# EAGLE library part GLCD_128X64 (library Eagle3D-Displays)
XIAMEN - GDM12864HLCM - 128 x 64 Graphical LCD Module (GLCD)
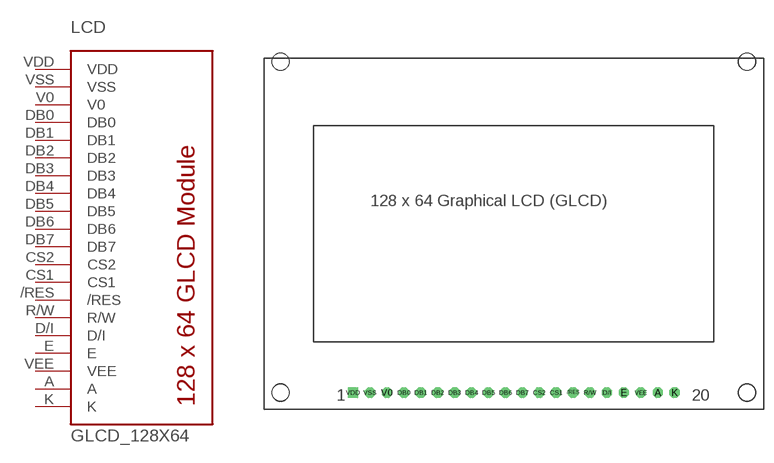
[diagram p1: symbol with the pads of GLCD-128X64; footprint GLCD-128X64]

Designator prefix LCD

## GLCD_128X64  [GLCD-128X64]
/RES  /RES  in
A  A  pwr
CS1  CS1  in
CS2  CS2  in
D/I  D/I  in
DB0  DB0
DB1  DB1
DB2  DB2
DB3  DB3
DB4  DB4
DB5  DB5
DB6  DB6
DB7  DB7
E  E  in
K  K  pwr
R/W  R/W  in
V0  V0
VDD  VDD  pwr
VEE  VEE
VSS  VSS  pwr

## Footprint GLCD-128X64 (pad centres in mm)
drill 1.016 octagon: /RES 7.62,-25.4; A 20.32,-25.4; CS1 5.08,-25.4; CS2 2.54,-25.4; D/I 12.7,-25.4; DB0 -17.78,-25.4; DB1 -15.24,-25.4; DB2 -12.7,-25.4; DB3 -10.16,-25.4; DB4 -7.62,-25.4; DB5 -5.08,-25.4; DB6 -2.54,-25.4; DB7 0,-25.4; E 15.24,-25.4; K 22.86,-25.4; R/W 10.16,-25.4; V0 -20.32,-25.4; VEE 17.78,-25.4; VSS -22.86,-25.4
drill 1.016 square: VDD -25.4,-25.4
hole 2.5 at -36.3,-25.4
hole 2.5 at -36.3,24.3
hole 2.5 at 33.7,24.3
hole 2.5 at 33.7,-25.4